# Altium footprint library SCW20A15.PcbLib: 1 footprints
Each footprint in its own frame and in the unit in brackets; x right, y up, seen from the top. Pads: shape width x height; smd on the part's side, far side on the other; paste and mask are expansions set on the pad; w line width, h text height; cw(c..) or ccw(c..) is an arc to the next point about the centre after c.
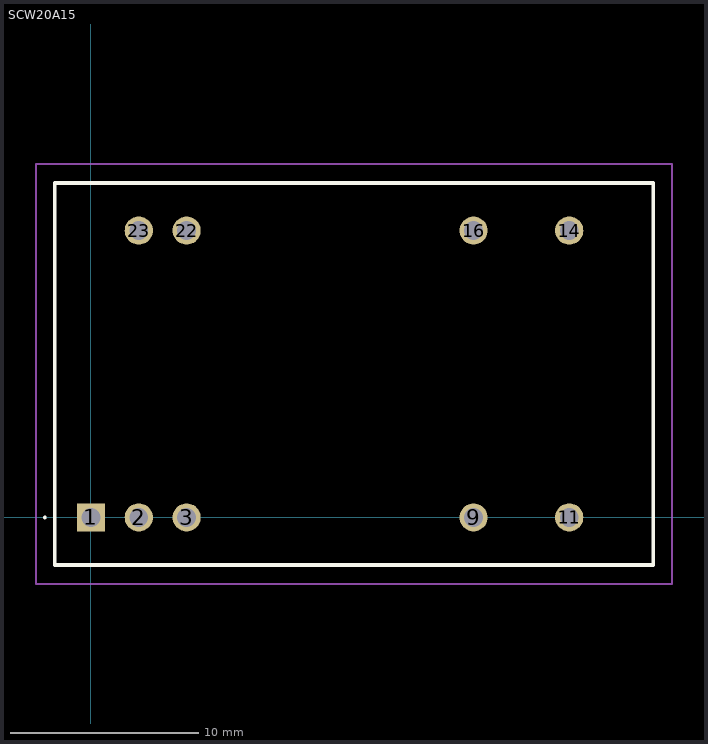
[diagram p0: the footprint, top view; thin cyan lines are the x and y axes]

## SCW20A15 [mm]
pads (9):
  rect 1.5x1.5 hole 1: 1(0,0)
  round 1.5 hole 1: 2(2.54,0) 3(5.08,0) 9(20.32,0) 11(25.4,0) 14(25.4,15.24) 16(20.32,15.24) 22(5.08,15.24) 23(2.54,15.24)
Top Overlay:
  lines w0.1: -2.5,0 cw(c-2.45,0) -2.4,0 ; -2.5,0 -2.5,0 ; -2.5,0 ccw(c-2.45,0) -2.4,0 ; -2.4,0 -2.4,0
  lines w0.2: -1.93,-2.53 29.87,-2.53 29.87,17.77 -1.93,17.77 -1.93,-2.53
Mechanical 15:
  lines w0.1: -1.93,-2.53 29.87,-2.53 29.87,17.77 -1.93,17.77 -1.93,-2.53
Mechanical 20:
  lines w0.1: -2.93,-3.53 30.87,-3.53 30.87,18.77 -2.93,18.77 -2.93,-3.53